# EAGLE library part FT230X (library MF_IC_Digital)
Manufacturer Part #: FT230X Manufacturer: FTDI Description: USB Interface IC USB to Basic Serial UART IC
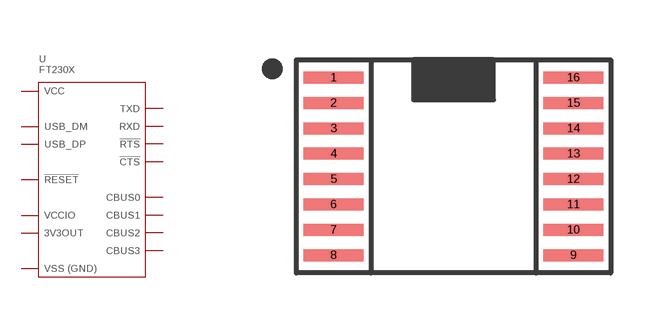
[diagram p7: symbol with the pads of SSOP16; footprint SSOP16]

Designator prefix U

## FT230XS-R (HOUSEPART: NO; MPN: FT230XS-R; POPULATE: 1; URL: http://www.ftdichip.com/Support/Documents/DataSheets/ICs/DS_FT230X.pdf; VALUE: FT230XS-R)  [SSOP16]
1  TXD
2  !RTS
3  VCCIO
4  RXD
5  GND
6  !CTS
7  CBUS2
8  USBDP
9  USBDM
10  3V3OUT
11  !RESET
12  VCC
13  GND
14  CBUS1
15  CBUS0
16  CBUS3

## Footprint SSOP16 (pad centres in mm)
Description: Standard SSOP-16 Package.
smd 1.5 x 0.3: 1 -3,2.223; 2 -3,1.587; 3 -3,0.953; 4 -3,0.318; 5 -3,-0.318; 6 -3,-0.953; 7 -3,-1.587; 8 -3,-2.223; 9 3,-2.223; 10 3,-1.587; 11 3,-0.953; 12 3,-0.318; 13 3,0.318; 14 3,0.953; 15 3,1.587; 16 3,2.223